# Altium schematic symbol library IC_BGS13SN8.Schlib: 1 symbol
Pins are listed as number, name and electrical type; pins without a type are passive.

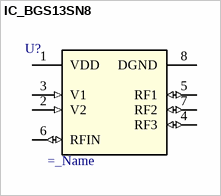
[diagram p0: symbol IC_BGS13SN8]

## IC_BGS13SN8
designator U?  (value not drawn)
=description; Value: =_Name
pins: 1 VDD (power) "Power Supply", 2 V2 (in) "Control Pin 2", 3 V1 (in) "Control Pin 1", 4 RF3 (io) "RF-Port 3", 5 RF1 (io) "RF-Port 1", 6 RFIN (io) "RF Input", 7 RF2 (io) "RF-Port 2", 8 DGND (power) "Digital Ground"